# Altium schematic symbol library D Zener.Schlib: 1 symbol
Pins are listed as number, name and electrical type; pins without a type are passive.

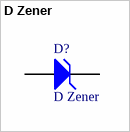
[diagram p0: symbol D Zener]

## D Zener
designator D?
Zener Diode
pins: A, K